# Altium integrated library National Semiconductor OtherParts.IntLib: 205 symbols (part 3 of 7)
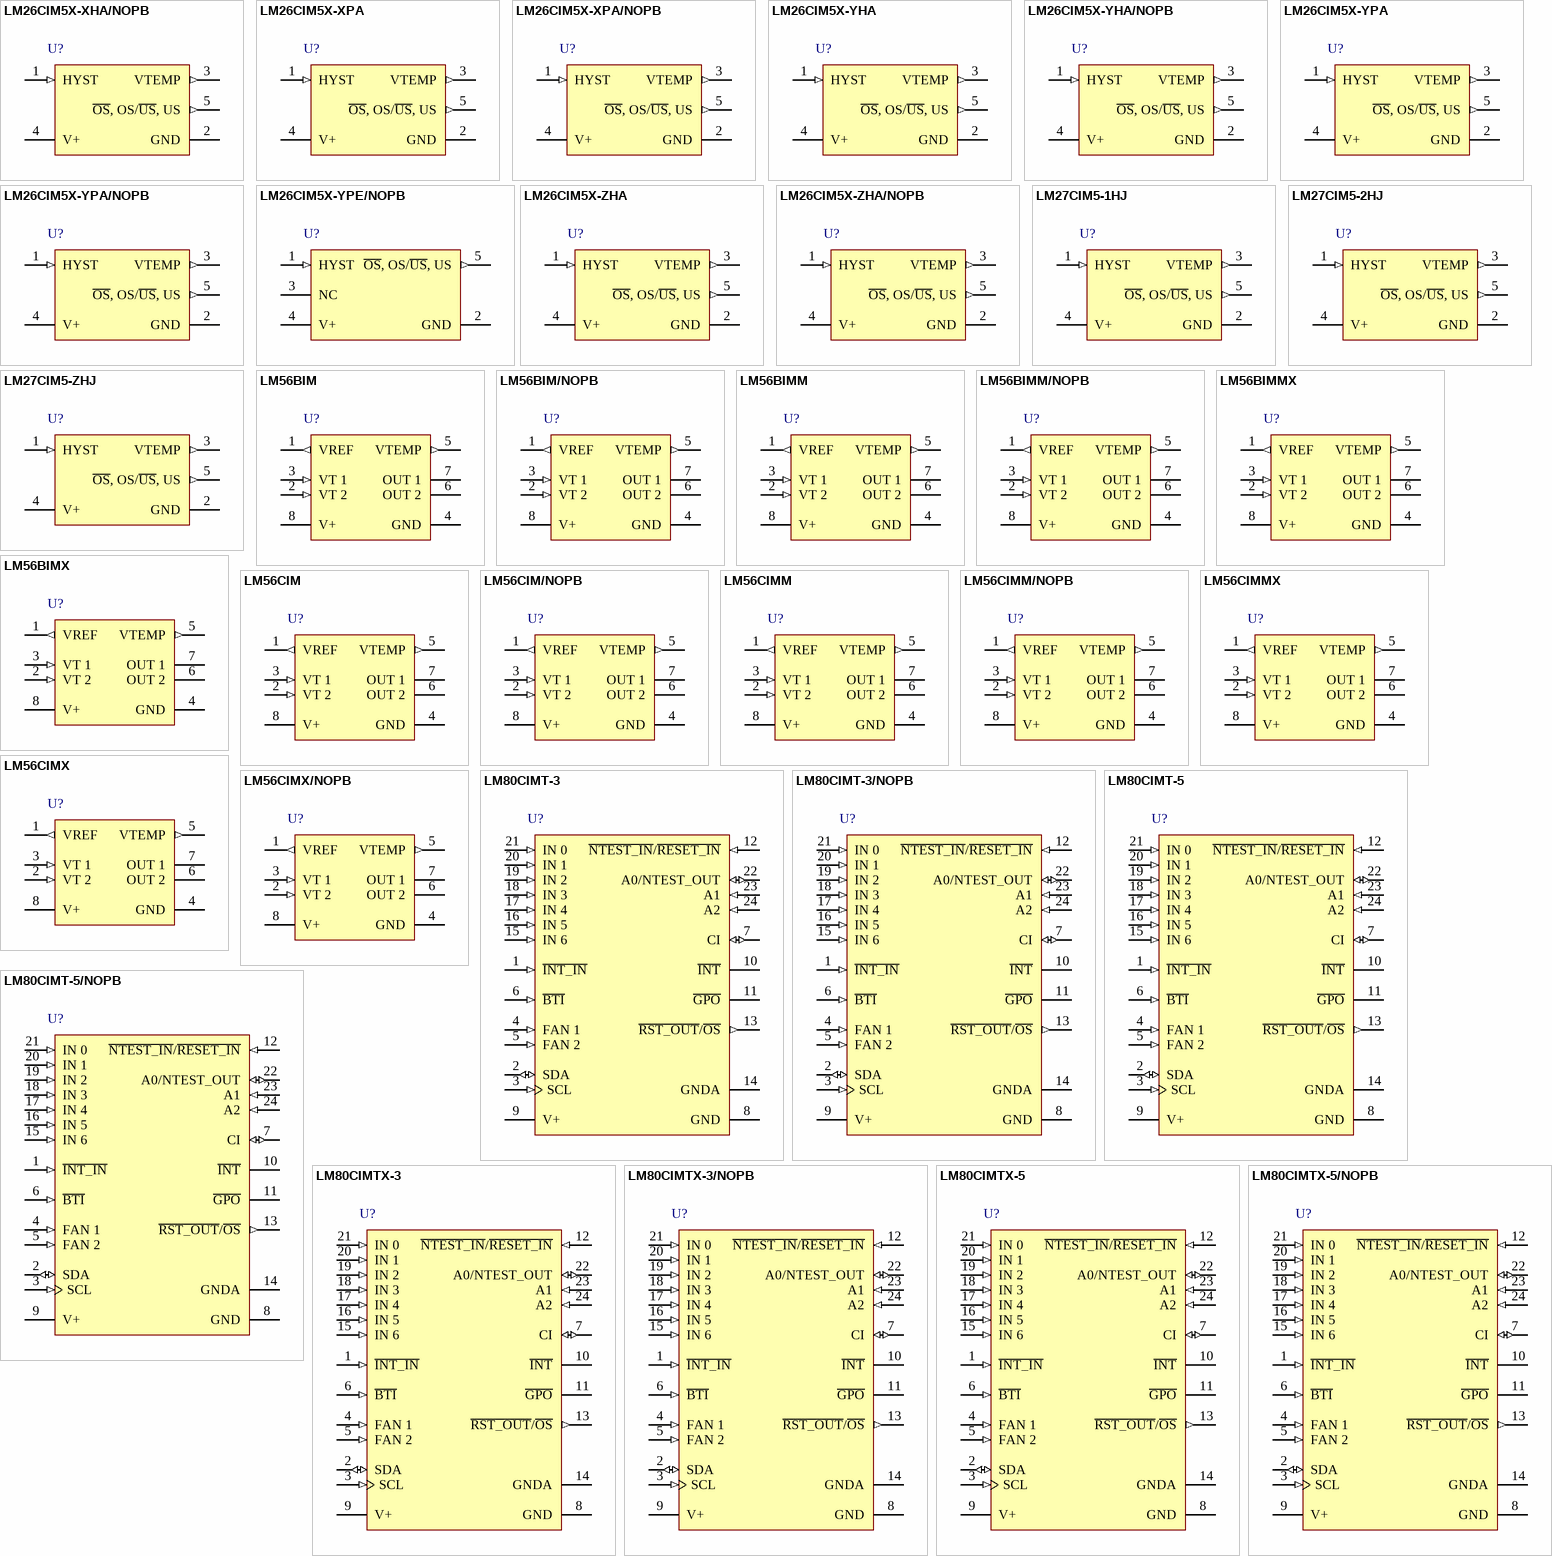
[diagram p14: symbols LM26CIM5X-XHA/NOPB to LM80CIMTX-5/NOPB]

## LM56CIMM
designator U?
Dual Output Low Power Thermostat, 8-pin Mini SOIC; PartNumber: LM56CIMM; Manufacturer: National Semiconductor; PackageTopMarking: ZXTT*T02C; PowerWise: Y; CompType: OtherParts; DatasheetVersion: Aug-2009; PackageVersion: revF, Apr-2008; PackageReference: MUA08A; PackageDescription: MINI SOIC, .118 x .118 x .034in, 8 Lead, .0256in Pitch; RoHS: N; PinCount: 8; High-Reliability: Y; Code_JEDEC: MO-187-AA; ComponentLink1Description: Manufacturer URL; ComponentLink1URL: http://www.national.com/; ComponentLink2Description: LM56 Datasheet; ComponentLink2URL: http://www.national.com/ds/LM/LM56.pdf; ComponentLink3Description: LM56 Web Page; ComponentLink3URL: http://www.national.com/pf/LM/LM56.html; ComponentLink4Description: MUA08A Package Page; ComponentLink4URL: http://www.national.com/packaging/folders/mua08a.html
footprint MUA08A_N (TSOP, 8-Leads, Body 3x3mm, Pitch 0.65mm, IPC Medium Density)
footprint MUA08A_L (TSOP, 8-Leads, Body 3x3mm, Pitch 0.65mm, IPC High Density)
footprint MUA08A_M (TSOP, 8-Leads, Body 3x3mm, Pitch 0.65mm, IPC Low Density)
pins: 1 VREF (out), 2 VT 2 (in), 3 VT 1 (in), 4 GND (power), 5 VTEMP (out), 6 OUT 2 (oc), 7 OUT 1 (oc), 8 V+ (power)

## LM56CIMM/NOPB
designator U?
Dual Output Low Power Thermostat, 8-pin Mini SOIC, Pb-Free; PartNumber: LM56CIMM/NOPB; Manufacturer: National Semiconductor; PackageTopMarking: ZXTT*T02C; PowerWise: Y; CompType: OtherParts; DatasheetVersion: Aug-2009; PackageVersion: revF, Apr-2008; PackageReference: MUA08A; PackageDescription: MINI SOIC, .118 x .118 x .034in, 8 Lead, .0256in Pitch; RoHS: Y; PinCount: 8; High-Reliability: Y; Code_JEDEC: MO-187-AA; ComponentLink1Description: Manufacturer URL; ComponentLink1URL: http://www.national.com/; ComponentLink2Description: LM56 Datasheet; ComponentLink2URL: http://www.national.com/ds/LM/LM56.pdf; ComponentLink3Description: LM56 Web Page; ComponentLink3URL: http://www.national.com/pf/LM/LM56.html; ComponentLink4Description: MUA08A Package Page; ComponentLink4URL: http://www.national.com/packaging/folders/mua08a.html
footprint MUA08A_N (TSOP, 8-Leads, Body 3x3mm, Pitch 0.65mm, IPC Medium Density)
footprint MUA08A_L (TSOP, 8-Leads, Body 3x3mm, Pitch 0.65mm, IPC High Density)
footprint MUA08A_M (TSOP, 8-Leads, Body 3x3mm, Pitch 0.65mm, IPC Low Density)
pins: 1 VREF (out), 2 VT 2 (in), 3 VT 1 (in), 4 GND (power), 5 VTEMP (out), 6 OUT 2 (oc), 7 OUT 1 (oc), 8 V+ (power)

## LM56CIMMX
designator U?
Dual Output Low Power Thermostat, 8-pin Mini SOIC; PartNumber: LM56CIMMX; Manufacturer: National Semiconductor; PackageTopMarking: ZXTT*T02C; PowerWise: Y; CompType: OtherParts; DatasheetVersion: Aug-2009; PackageVersion: revF, Apr-2008; PackageReference: MUA08A; PackageDescription: MINI SOIC, .118 x .118 x .034in, 8 Lead, .0256in Pitch; RoHS: N; PinCount: 8; High-Reliability: Y; Code_JEDEC: MO-187-AA; ComponentLink1Description: Manufacturer URL; ComponentLink1URL: http://www.national.com/; ComponentLink2Description: LM56 Datasheet; ComponentLink2URL: http://www.national.com/ds/LM/LM56.pdf; ComponentLink3Description: LM56 Web Page; ComponentLink3URL: http://www.national.com/pf/LM/LM56.html; ComponentLink4Description: MUA08A Package Page; ComponentLink4URL: http://www.national.com/packaging/folders/mua08a.html
footprint MUA08A_N (TSOP, 8-Leads, Body 3x3mm, Pitch 0.65mm, IPC Medium Density)
footprint MUA08A_L (TSOP, 8-Leads, Body 3x3mm, Pitch 0.65mm, IPC High Density)
footprint MUA08A_M (TSOP, 8-Leads, Body 3x3mm, Pitch 0.65mm, IPC Low Density)
pins: 1 VREF (out), 2 VT 2 (in), 3 VT 1 (in), 4 GND (power), 5 VTEMP (out), 6 OUT 2 (oc), 7 OUT 1 (oc), 8 V+ (power)

## LM56CIMX
designator U?
Dual Output Low Power Thermostat, 8-pin Narrow SOIC; PartNumber: LM56CIMX; Manufacturer: National Semiconductor; PackageTopMarking: NSZXTT*LM56*CIM; PowerWise: Y; CompType: OtherParts; DatasheetVersion: Aug-2009; PackageVersion: revM, May-2009; PackageReference: M08A; PackageDescription: SOIC Narrow, 4.9 x 3.9 x 1.45mm, 8 Lead, 1.27mm Pitch; RoHS: N; PinCount: 8; High-Reliability: Y; Code_JEDEC: MS-012-AA; Code_IPC: SOIC127P600-8; ComponentLink1Description: Manufacturer URL; ComponentLink1URL: http://www.national.com/; ComponentLink2Description: LM56 Datasheet; ComponentLink2URL: http://www.national.com/ds/LM/LM56.pdf; ComponentLink3Description: LM56 Web Page; ComponentLink3URL: http://www.national.com/pf/LM/LM56.html; ComponentLink4Description: M08A Package Page; ComponentLink4URL: http://www.national.com/packaging/folders/m08a.html
footprint M08A_N (SOIC, 8-Leads, Body 4.9x3.9mm, Pitch 1.27mm, IPC Medium Density)
footprint M08A_L (SOIC, 8-Leads, Body 4.9x3.9mm, Pitch 1.27mm, IPC High Density)
footprint M08A_M (SOIC, 8-Leads, Body 4.9x3.9mm, Pitch 1.27mm, IPC Low Density)
pins: 1 VREF (out), 2 VT 2 (in), 3 VT 1 (in), 4 GND (power), 5 VTEMP (out), 6 OUT 2 (oc), 7 OUT 1 (oc), 8 V+ (power)

## LM56CIMX/NOPB
designator U?
Dual Output Low Power Thermostat, 8-pin Narrow SOIC, Pb-Free; PartNumber: LM56CIMX/NOPB; Manufacturer: National Semiconductor; PackageTopMarking: NSZXTT*LM56*CIM; PowerWise: Y; CompType: OtherParts; DatasheetVersion: Aug-2009; PackageVersion: revM, May-2009; PackageReference: M08A; PackageDescription: SOIC Narrow, 4.9 x 3.9 x 1.45mm, 8 Lead, 1.27mm Pitch; RoHS: Y; PinCount: 8; High-Reliability: Y; Code_JEDEC: MS-012-AA; Code_IPC: SOIC127P600-8; ComponentLink1Description: Manufacturer URL; ComponentLink1URL: http://www.national.com/; ComponentLink2Description: LM56 Datasheet; ComponentLink2URL: http://www.national.com/ds/LM/LM56.pdf; ComponentLink3Description: LM56 Web Page; ComponentLink3URL: http://www.national.com/pf/LM/LM56.html; ComponentLink4Description: M08A Package Page; ComponentLink4URL: http://www.national.com/packaging/folders/m08a.html
footprint M08A_N (SOIC, 8-Leads, Body 4.9x3.9mm, Pitch 1.27mm, IPC Medium Density)
footprint M08A_L (SOIC, 8-Leads, Body 4.9x3.9mm, Pitch 1.27mm, IPC High Density)
footprint M08A_M (SOIC, 8-Leads, Body 4.9x3.9mm, Pitch 1.27mm, IPC Low Density)
pins: 1 VREF (out), 2 VT 2 (in), 3 VT 1 (in), 4 GND (power), 5 VTEMP (out), 6 OUT 2 (oc), 7 OUT 1 (oc), 8 V+ (power)

## LM80CIMT-3
designator U?
Serial Interface ACPI-Compatible Microprocessor System Hardware Monitor, 24-pin TSSOP; PartNumber: LM80CIMT-3; Manufacturer: National Semiconductor; PackageTopMarking: NSUZXYTTE#*LM80*CIMT-3; PowerWise: N; CompType: OtherParts; High-Reliability: Y; DatasheetVersion: Oct-2009; PackageVersion: revE, Mar-2003; PackageReference: MTC24; PackageDescription: Molded TSSOP, Jedec, 7.8 x 4.4 x 0.9mm Body, 24 Lead, 0.65mm Pitch; RoHS: N; PinCount: 24; Code_JEDEC: MO-153-AD; ComponentLink1Description: Manufacturer URL; ComponentLink1URL: http://www.national.com/; ComponentLink2Description: LM80 Datasheet; ComponentLink2URL: http://www.national.com/ds/LM/LM80.pdf; ComponentLink3Description: LM80 Web Page; ComponentLink3URL: http://www.national.com/pf/LM/LM80.html; ComponentLink4Description: MTC24 Package Page; ComponentLink4URL: http://www.national.com/packaging/folders/mtc24.html
footprint MTC24_N (TSOP, 24-Leads, Body 7.8x4.4mm, Pitch 0.65mm, IPC Medium Density)
footprint MTC24_L (TSOP, 24-Leads, Body 7.8x4.4mm, Pitch 0.65mm, IPC High Density)
footprint MTC24_M (TSOP, 24-Leads, Body 7.8x4.4mm, Pitch 0.65mm, IPC Low Density)
pins: 1 ~{INT_IN} (in), 2 SDA (io), 3 SCL (in), 4 FAN 1 (in), 5 FAN 2 (in), 6 ~{BTI} (in), 7 CI (io), 8 GND (power), 9 V+ (power), 10 ~{INT} (oe), 11 ~{GPO} (oe), 12 ~{NTEST_IN}/~{RESET_IN} (in), 13 ~{RST_OUT}/~{OS} (out), 14 GNDA (power), 15 IN 6 (in), 16 IN 5 (in), 17 IN 4 (in), 18 IN 3 (in), 19 IN 2 (in), 20 IN 1 (in), 21 IN 0 (in), 22 A0/NTEST_OUT (io), 23 A1 (in), 24 A2 (in)

## LM80CIMT-3/NOPB
designator U?
Serial Interface ACPI-Compatible Microprocessor System Hardware Monitor, 24-pin TSSOP, Pb-Free; PartNumber: LM80CIMT-3/NOPB; Manufacturer: National Semiconductor; PackageTopMarking: NSUZXYTTE#*LM80*CIMT-3; PowerWise: N; CompType: OtherParts; High-Reliability: Y; DatasheetVersion: Oct-2009; PackageVersion: revE, Mar-2003; PackageReference: MTC24; PackageDescription: Molded TSSOP, Jedec, 7.8 x 4.4 x 0.9mm Body, 24 Lead, 0.65mm Pitch; RoHS: Y; PinCount: 24; Code_JEDEC: MO-153-AD; ComponentLink1Description: Manufacturer URL; ComponentLink1URL: http://www.national.com/; ComponentLink2Description: LM80 Datasheet; ComponentLink2URL: http://www.national.com/ds/LM/LM80.pdf; ComponentLink3Description: LM80 Web Page; ComponentLink3URL: http://www.national.com/pf/LM/LM80.html; ComponentLink4Description: MTC24 Package Page; ComponentLink4URL: http://www.national.com/packaging/folders/mtc24.html
footprint MTC24_N (TSOP, 24-Leads, Body 7.8x4.4mm, Pitch 0.65mm, IPC Medium Density)
footprint MTC24_L (TSOP, 24-Leads, Body 7.8x4.4mm, Pitch 0.65mm, IPC High Density)
footprint MTC24_M (TSOP, 24-Leads, Body 7.8x4.4mm, Pitch 0.65mm, IPC Low Density)
pins: 1 ~{INT_IN} (in), 2 SDA (io), 3 SCL (in), 4 FAN 1 (in), 5 FAN 2 (in), 6 ~{BTI} (in), 7 CI (io), 8 GND (power), 9 V+ (power), 10 ~{INT} (oe), 11 ~{GPO} (oe), 12 ~{NTEST_IN}/~{RESET_IN} (in), 13 ~{RST_OUT}/~{OS} (out), 14 GNDA (power), 15 IN 6 (in), 16 IN 5 (in), 17 IN 4 (in), 18 IN 3 (in), 19 IN 2 (in), 20 IN 1 (in), 21 IN 0 (in), 22 A0/NTEST_OUT (io), 23 A1 (in), 24 A2 (in)

## LM80CIMT-5
designator U?
Serial Interface ACPI-Compatible Microprocessor System Hardware Monitor, 24-pin TSSOP; PartNumber: LM80CIMT-5; Manufacturer: National Semiconductor; PackageTopMarking: NSUZXYTTE#*LM80*CIMT-5; PowerWise: N; CompType: OtherParts; High-Reliability: Y; DatasheetVersion: Oct-2009; PackageVersion: revE, Mar-2003; PackageReference: MTC24; PackageDescription: Molded TSSOP, Jedec, 7.8 x 4.4 x 0.9mm Body, 24 Lead, 0.65mm Pitch; RoHS: N; PinCount: 24; Code_JEDEC: MO-153-AD; ComponentLink1Description: Manufacturer URL; ComponentLink1URL: http://www.national.com/; ComponentLink2Description: LM80 Datasheet; ComponentLink2URL: http://www.national.com/ds/LM/LM80.pdf; ComponentLink3Description: LM80 Web Page; ComponentLink3URL: http://www.national.com/pf/LM/LM80.html; ComponentLink4Description: MTC24 Package Page; ComponentLink4URL: http://www.national.com/packaging/folders/mtc24.html
footprint MTC24_N (TSOP, 24-Leads, Body 7.8x4.4mm, Pitch 0.65mm, IPC Medium Density)
footprint MTC24_L (TSOP, 24-Leads, Body 7.8x4.4mm, Pitch 0.65mm, IPC High Density)
footprint MTC24_M (TSOP, 24-Leads, Body 7.8x4.4mm, Pitch 0.65mm, IPC Low Density)
pins: 1 ~{INT_IN} (in), 2 SDA (io), 3 SCL (in), 4 FAN 1 (in), 5 FAN 2 (in), 6 ~{BTI} (in), 7 CI (io), 8 GND (power), 9 V+ (power), 10 ~{INT} (oe), 11 ~{GPO} (oe), 12 ~{NTEST_IN}/~{RESET_IN} (in), 13 ~{RST_OUT}/~{OS} (out), 14 GNDA (power), 15 IN 6 (in), 16 IN 5 (in), 17 IN 4 (in), 18 IN 3 (in), 19 IN 2 (in), 20 IN 1 (in), 21 IN 0 (in), 22 A0/NTEST_OUT (io), 23 A1 (in), 24 A2 (in)

## LM80CIMT-5/NOPB
designator U?
Serial Interface ACPI-Compatible Microprocessor System Hardware Monitor, 24-pin TSSOP, Pb-Free; PartNumber: LM80CIMT-5/NOPB; Manufacturer: National Semiconductor; PackageTopMarking: NSUZXYTTE#*LM80*CIMT-5; PowerWise: N; CompType: OtherParts; High-Reliability: Y; DatasheetVersion: Oct-2009; PackageVersion: revE, Mar-2003; PackageReference: MTC24; PackageDescription: Molded TSSOP, Jedec, 7.8 x 4.4 x 0.9mm Body, 24 Lead, 0.65mm Pitch; RoHS: Y; PinCount: 24; Code_JEDEC: MO-153-AD; ComponentLink1Description: Manufacturer URL; ComponentLink1URL: http://www.national.com/; ComponentLink2Description: LM80 Datasheet; ComponentLink2URL: http://www.national.com/ds/LM/LM80.pdf; ComponentLink3Description: LM80 Web Page; ComponentLink3URL: http://www.national.com/pf/LM/LM80.html; ComponentLink4Description: MTC24 Package Page; ComponentLink4URL: http://www.national.com/packaging/folders/mtc24.html
footprint MTC24_N (TSOP, 24-Leads, Body 7.8x4.4mm, Pitch 0.65mm, IPC Medium Density)
footprint MTC24_L (TSOP, 24-Leads, Body 7.8x4.4mm, Pitch 0.65mm, IPC High Density)
footprint MTC24_M (TSOP, 24-Leads, Body 7.8x4.4mm, Pitch 0.65mm, IPC Low Density)
pins: 1 ~{INT_IN} (in), 2 SDA (io), 3 SCL (in), 4 FAN 1 (in), 5 FAN 2 (in), 6 ~{BTI} (in), 7 CI (io), 8 GND (power), 9 V+ (power), 10 ~{INT} (oe), 11 ~{GPO} (oe), 12 ~{NTEST_IN}/~{RESET_IN} (in), 13 ~{RST_OUT}/~{OS} (out), 14 GNDA (power), 15 IN 6 (in), 16 IN 5 (in), 17 IN 4 (in), 18 IN 3 (in), 19 IN 2 (in), 20 IN 1 (in), 21 IN 0 (in), 22 A0/NTEST_OUT (io), 23 A1 (in), 24 A2 (in)

## LM80CIMTX-3
designator U?
Serial Interface ACPI-Compatible Microprocessor System Hardware Monitor, 24-pin TSSOP; PartNumber: LM80CIMTX-3; Manufacturer: National Semiconductor; PackageTopMarking: NSUZXYTTE#*LM80*CIMT-3; PowerWise: N; CompType: OtherParts; High-Reliability: Y; DatasheetVersion: Oct-2009; PackageVersion: revE, Mar-2003; PackageReference: MTC24; PackageDescription: Molded TSSOP, Jedec, 7.8 x 4.4 x 0.9mm Body, 24 Lead, 0.65mm Pitch; RoHS: N; PinCount: 24; Code_JEDEC: MO-153-AD; ComponentLink1Description: Manufacturer URL; ComponentLink1URL: http://www.national.com/; ComponentLink2Description: LM80 Datasheet; ComponentLink2URL: http://www.national.com/ds/LM/LM80.pdf; ComponentLink3Description: LM80 Web Page; ComponentLink3URL: http://www.national.com/pf/LM/LM80.html; ComponentLink4Description: MTC24 Package Page; ComponentLink4URL: http://www.national.com/packaging/folders/mtc24.html
footprint MTC24_N (TSOP, 24-Leads, Body 7.8x4.4mm, Pitch 0.65mm, IPC Medium Density)
footprint MTC24_L (TSOP, 24-Leads, Body 7.8x4.4mm, Pitch 0.65mm, IPC High Density)
footprint MTC24_M (TSOP, 24-Leads, Body 7.8x4.4mm, Pitch 0.65mm, IPC Low Density)
pins: 1 ~{INT_IN} (in), 2 SDA (io), 3 SCL (in), 4 FAN 1 (in), 5 FAN 2 (in), 6 ~{BTI} (in), 7 CI (io), 8 GND (power), 9 V+ (power), 10 ~{INT} (oe), 11 ~{GPO} (oe), 12 ~{NTEST_IN}/~{RESET_IN} (in), 13 ~{RST_OUT}/~{OS} (out), 14 GNDA (power), 15 IN 6 (in), 16 IN 5 (in), 17 IN 4 (in), 18 IN 3 (in), 19 IN 2 (in), 20 IN 1 (in), 21 IN 0 (in), 22 A0/NTEST_OUT (io), 23 A1 (in), 24 A2 (in)

## LM80CIMTX-3/NOPB
designator U?
Serial Interface ACPI-Compatible Microprocessor System Hardware Monitor, 24-pin TSSOP, Pb-Free; PartNumber: LM80CIMTX-3/NOPB; Manufacturer: National Semiconductor; PackageTopMarking: NSUZXYTTE#*LM80*CIMT-3; PowerWise: N; CompType: OtherParts; High-Reliability: Y; DatasheetVersion: Oct-2009; PackageVersion: revE, Mar-2003; PackageReference: MTC24; PackageDescription: Molded TSSOP, Jedec, 7.8 x 4.4 x 0.9mm Body, 24 Lead, 0.65mm Pitch; RoHS: Y; PinCount: 24; Code_JEDEC: MO-153-AD; ComponentLink1Description: Manufacturer URL; ComponentLink1URL: http://www.national.com/; ComponentLink2Description: LM80 Datasheet; ComponentLink2URL: http://www.national.com/ds/LM/LM80.pdf; ComponentLink3Description: LM80 Web Page; ComponentLink3URL: http://www.national.com/pf/LM/LM80.html; ComponentLink4Description: MTC24 Package Page; ComponentLink4URL: http://www.national.com/packaging/folders/mtc24.html
footprint MTC24_N (TSOP, 24-Leads, Body 7.8x4.4mm, Pitch 0.65mm, IPC Medium Density)
footprint MTC24_L (TSOP, 24-Leads, Body 7.8x4.4mm, Pitch 0.65mm, IPC High Density)
footprint MTC24_M (TSOP, 24-Leads, Body 7.8x4.4mm, Pitch 0.65mm, IPC Low Density)
pins: 1 ~{INT_IN} (in), 2 SDA (io), 3 SCL (in), 4 FAN 1 (in), 5 FAN 2 (in), 6 ~{BTI} (in), 7 CI (io), 8 GND (power), 9 V+ (power), 10 ~{INT} (oe), 11 ~{GPO} (oe), 12 ~{NTEST_IN}/~{RESET_IN} (in), 13 ~{RST_OUT}/~{OS} (out), 14 GNDA (power), 15 IN 6 (in), 16 IN 5 (in), 17 IN 4 (in), 18 IN 3 (in), 19 IN 2 (in), 20 IN 1 (in), 21 IN 0 (in), 22 A0/NTEST_OUT (io), 23 A1 (in), 24 A2 (in)

## LM80CIMTX-5
designator U?
Serial Interface ACPI-Compatible Microprocessor System Hardware Monitor, 24-pin TSSOP; PartNumber: LM80CIMTX-5; Manufacturer: National Semiconductor; PackageTopMarking: NSUZXYTTE#*LM80*CIMT-5; PowerWise: N; CompType: OtherParts; High-Reliability: Y; DatasheetVersion: Oct-2009; PackageVersion: revE, Mar-2003; PackageReference: MTC24; PackageDescription: Molded TSSOP, Jedec, 7.8 x 4.4 x 0.9mm Body, 24 Lead, 0.65mm Pitch; RoHS: N; PinCount: 24; Code_JEDEC: MO-153-AD; ComponentLink1Description: Manufacturer URL; ComponentLink1URL: http://www.national.com/; ComponentLink2Description: LM80 Datasheet; ComponentLink2URL: http://www.national.com/ds/LM/LM80.pdf; ComponentLink3Description: LM80 Web Page; ComponentLink3URL: http://www.national.com/pf/LM/LM80.html; ComponentLink4Description: MTC24 Package Page; ComponentLink4URL: http://www.national.com/packaging/folders/mtc24.html
footprint MTC24_N (TSOP, 24-Leads, Body 7.8x4.4mm, Pitch 0.65mm, IPC Medium Density)
footprint MTC24_L (TSOP, 24-Leads, Body 7.8x4.4mm, Pitch 0.65mm, IPC High Density)
footprint MTC24_M (TSOP, 24-Leads, Body 7.8x4.4mm, Pitch 0.65mm, IPC Low Density)
pins: 1 ~{INT_IN} (in), 2 SDA (io), 3 SCL (in), 4 FAN 1 (in), 5 FAN 2 (in), 6 ~{BTI} (in), 7 CI (io), 8 GND (power), 9 V+ (power), 10 ~{INT} (oe), 11 ~{GPO} (oe), 12 ~{NTEST_IN}/~{RESET_IN} (in), 13 ~{RST_OUT}/~{OS} (out), 14 GNDA (power), 15 IN 6 (in), 16 IN 5 (in), 17 IN 4 (in), 18 IN 3 (in), 19 IN 2 (in), 20 IN 1 (in), 21 IN 0 (in), 22 A0/NTEST_OUT (io), 23 A1 (in), 24 A2 (in)

## LM80CIMTX-5/NOPB
designator U?
Serial Interface ACPI-Compatible Microprocessor System Hardware Monitor, 24-pin TSSOP, Pb-Free; PartNumber: LM80CIMTX-5/NOPB; Manufacturer: National Semiconductor; PackageTopMarking: NSUZXYTTE#*LM80*CIMT-5; PowerWise: N; CompType: OtherParts; High-Reliability: Y; DatasheetVersion: Oct-2009; PackageVersion: revE, Mar-2003; PackageReference: MTC24; PackageDescription: Molded TSSOP, Jedec, 7.8 x 4.4 x 0.9mm Body, 24 Lead, 0.65mm Pitch; RoHS: Y; PinCount: 24; Code_JEDEC: MO-153-AD; ComponentLink1Description: Manufacturer URL; ComponentLink1URL: http://www.national.com/; ComponentLink2Description: LM80 Datasheet; ComponentLink2URL: http://www.national.com/ds/LM/LM80.pdf; ComponentLink3Description: LM80 Web Page; ComponentLink3URL: http://www.national.com/pf/LM/LM80.html; ComponentLink4Description: MTC24 Package Page; ComponentLink4URL: http://www.national.com/packaging/folders/mtc24.html
footprint MTC24_N (TSOP, 24-Leads, Body 7.8x4.4mm, Pitch 0.65mm, IPC Medium Density)
footprint MTC24_L (TSOP, 24-Leads, Body 7.8x4.4mm, Pitch 0.65mm, IPC High Density)
footprint MTC24_M (TSOP, 24-Leads, Body 7.8x4.4mm, Pitch 0.65mm, IPC Low Density)
pins: 1 ~{INT_IN} (in), 2 SDA (io), 3 SCL (in), 4 FAN 1 (in), 5 FAN 2 (in), 6 ~{BTI} (in), 7 CI (io), 8 GND (power), 9 V+ (power), 10 ~{INT} (oe), 11 ~{GPO} (oe), 12 ~{NTEST_IN}/~{RESET_IN} (in), 13 ~{RST_OUT}/~{OS} (out), 14 GNDA (power), 15 IN 6 (in), 16 IN 5 (in), 17 IN 4 (in), 18 IN 3 (in), 19 IN 2 (in), 20 IN 1 (in), 21 IN 0 (in), 22 A0/NTEST_OUT (io), 23 A1 (in), 24 A2 (in)

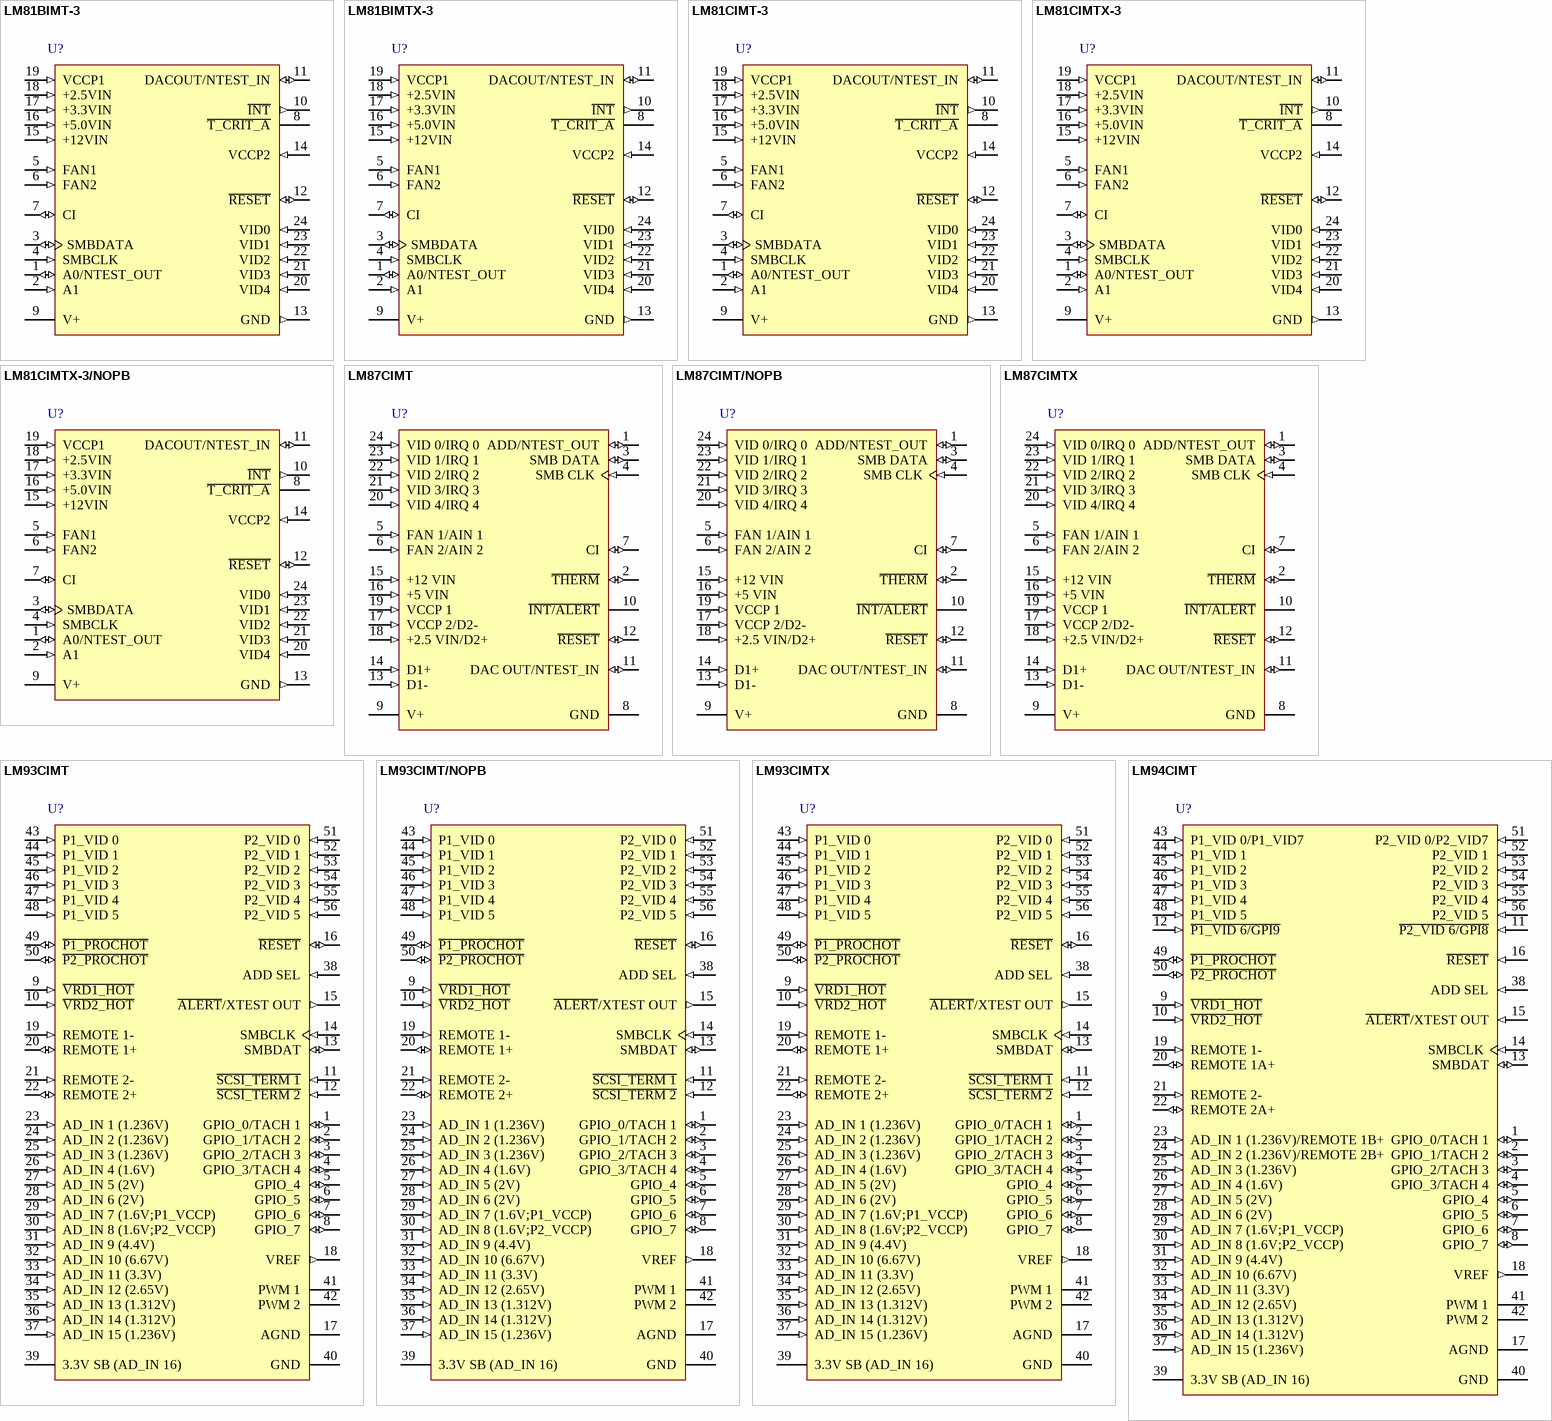
[diagram p3: symbols LM81BIMT-3 to LM94CIMT]

## LM81BIMT-3
designator U?
Serial Interface ACPI-Compatible Microprocessor System Hardware Monitor, 24-pin TSSOP; PartNumber: LM81BIMT-3; Manufacturer: National Semiconductor; PackageTopMarking: NSUZXYTTE#*LM81*BIMT-3; PowerWise: N; CompType: OtherParts; High-Reliability: Y; DatasheetVersion: Feb-2002; PackageVersion: revE, Mar-2003; PackageReference: MTC24; PackageDescription: Molded TSSOP, Jedec, 7.8 x 4.4 x 0.9mm Body, 24 Lead, 0.65mm Pitch; RoHS: N; PinCount: 24; Code_JEDEC: MO-153-AD; ComponentLink1Description: Manufacturer URL; ComponentLink1URL: http://www.national.com/; ComponentLink2Description: LM81 Datasheet; ComponentLink2URL: http://www.national.com/ds/LM/LM81.pdf; ComponentLink3Description: LM81 Web Page; ComponentLink3URL: http://www.national.com/pf/LM/LM81.html; ComponentLink4Description: MTC24 Package Page; ComponentLink4URL: http://www.national.com/packaging/folders/mtc24.html
footprint MTC24_N (TSOP, 24-Leads, Body 7.8x4.4mm, Pitch 0.65mm, IPC Medium Density)
footprint MTC24_L (TSOP, 24-Leads, Body 7.8x4.4mm, Pitch 0.65mm, IPC High Density)
footprint MTC24_M (TSOP, 24-Leads, Body 7.8x4.4mm, Pitch 0.65mm, IPC Low Density)
pins: 1 A0/NTEST_OUT (io), 2 A1 (in), 3 SMBDATA (io), 4 SMBCLK (in), 5 FAN1 (in), 6 FAN2 (in), 7 CI (io), 8 ~{T_CRIT_A} (oc), 9 V+ (power), 10 ~{INT} (out), 11 DACOUT/NTEST_IN (io), 12 ~{RESET} (io), 13 GND (out), 14 VCCP2 (in), 15 +12VIN (in), 16 +5.0VIN (in), 17 +3.3VIN (in), 18 +2.5VIN (in), 19 VCCP1 (in), 20 VID4 (in), 21 VID3 (in), 22 VID2 (in), 23 VID1 (in), 24 VID0 (in)

## LM81BIMTX-3
designator U?
Serial Interface ACPI-Compatible Microprocessor System Hardware Monitor, 24-pin TSSOP; PartNumber: LM81BIMTX-3; Manufacturer: National Semiconductor; PackageTopMarking: NSUZXYTTE#*LM81*BIMT-3; PowerWise: N; CompType: OtherParts; High-Reliability: Y; DatasheetVersion: Feb-2002; PackageVersion: revE, Mar-2003; PackageReference: MTC24; PackageDescription: Molded TSSOP, Jedec, 7.8 x 4.4 x 0.9mm Body, 24 Lead, 0.65mm Pitch; RoHS: N; PinCount: 24; Code_JEDEC: MO-153-AD; ComponentLink1Description: Manufacturer URL; ComponentLink1URL: http://www.national.com/; ComponentLink2Description: LM81 Datasheet; ComponentLink2URL: http://www.national.com/ds/LM/LM81.pdf; ComponentLink3Description: LM81 Web Page; ComponentLink3URL: http://www.national.com/pf/LM/LM81.html; ComponentLink4Description: MTC24 Package Page; ComponentLink4URL: http://www.national.com/packaging/folders/mtc24.html
footprint MTC24_N (TSOP, 24-Leads, Body 7.8x4.4mm, Pitch 0.65mm, IPC Medium Density)
footprint MTC24_L (TSOP, 24-Leads, Body 7.8x4.4mm, Pitch 0.65mm, IPC High Density)
footprint MTC24_M (TSOP, 24-Leads, Body 7.8x4.4mm, Pitch 0.65mm, IPC Low Density)
pins: 1 A0/NTEST_OUT (io), 2 A1 (in), 3 SMBDATA (io), 4 SMBCLK (in), 5 FAN1 (in), 6 FAN2 (in), 7 CI (io), 8 ~{T_CRIT_A} (oc), 9 V+ (power), 10 ~{INT} (out), 11 DACOUT/NTEST_IN (io), 12 ~{RESET} (io), 13 GND (out), 14 VCCP2 (in), 15 +12VIN (in), 16 +5.0VIN (in), 17 +3.3VIN (in), 18 +2.5VIN (in), 19 VCCP1 (in), 20 VID4 (in), 21 VID3 (in), 22 VID2 (in), 23 VID1 (in), 24 VID0 (in)

## LM81CIMT-3
designator U?
Serial Interface ACPI-Compatible Microprocessor System Hardware Monitor, 24-pin TSSOP; PartNumber: LM81CIMT-3; Manufacturer: National Semiconductor; PackageTopMarking: NSUZXYTTE#*LM81*CIMT-3; PowerWise: N; CompType: OtherParts; High-Reliability: Y; DatasheetVersion: Feb-2002; PackageVersion: revE, Mar-2003; PackageReference: MTC24; PackageDescription: Molded TSSOP, Jedec, 7.8 x 4.4 x 0.9mm Body, 24 Lead, 0.65mm Pitch; RoHS: N; PinCount: 24; Code_JEDEC: MO-153-AD; ComponentLink1Description: Manufacturer URL; ComponentLink1URL: http://www.national.com/; ComponentLink2Description: LM81 Datasheet; ComponentLink2URL: http://www.national.com/ds/LM/LM81.pdf; ComponentLink3Description: LM81 Web Page; ComponentLink3URL: http://www.national.com/pf/LM/LM81.html; ComponentLink4Description: MTC24 Package Page; ComponentLink4URL: http://www.national.com/packaging/folders/mtc24.html
footprint MTC24_N (TSOP, 24-Leads, Body 7.8x4.4mm, Pitch 0.65mm, IPC Medium Density)
footprint MTC24_L (TSOP, 24-Leads, Body 7.8x4.4mm, Pitch 0.65mm, IPC High Density)
footprint MTC24_M (TSOP, 24-Leads, Body 7.8x4.4mm, Pitch 0.65mm, IPC Low Density)
pins: 1 A0/NTEST_OUT (io), 2 A1 (in), 3 SMBDATA (io), 4 SMBCLK (in), 5 FAN1 (in), 6 FAN2 (in), 7 CI (io), 8 ~{T_CRIT_A} (oc), 9 V+ (power), 10 ~{INT} (out), 11 DACOUT/NTEST_IN (io), 12 ~{RESET} (io), 13 GND (out), 14 VCCP2 (in), 15 +12VIN (in), 16 +5.0VIN (in), 17 +3.3VIN (in), 18 +2.5VIN (in), 19 VCCP1 (in), 20 VID4 (in), 21 VID3 (in), 22 VID2 (in), 23 VID1 (in), 24 VID0 (in)

## LM81CIMTX-3
designator U?
Serial Interface ACPI-Compatible Microprocessor System Hardware Monitor, 24-pin TSSOP; PartNumber: LM81CIMTX-3; Manufacturer: National Semiconductor; PackageTopMarking: NSUZXYTTE#*LM81*CIMT-3; PowerWise: N; CompType: OtherParts; High-Reliability: Y; DatasheetVersion: Feb-2002; PackageVersion: revE, Mar-2003; PackageReference: MTC24; PackageDescription: Molded TSSOP, Jedec, 7.8 x 4.4 x 0.9mm Body, 24 Lead, 0.65mm Pitch; RoHS: N; PinCount: 24; Code_JEDEC: MO-153-AD; ComponentLink1Description: Manufacturer URL; ComponentLink1URL: http://www.national.com/; ComponentLink2Description: LM81 Datasheet; ComponentLink2URL: http://www.national.com/ds/LM/LM81.pdf; ComponentLink3Description: LM81 Web Page; ComponentLink3URL: http://www.national.com/pf/LM/LM81.html; ComponentLink4Description: MTC24 Package Page; ComponentLink4URL: http://www.national.com/packaging/folders/mtc24.html
footprint MTC24_N (TSOP, 24-Leads, Body 7.8x4.4mm, Pitch 0.65mm, IPC Medium Density)
footprint MTC24_L (TSOP, 24-Leads, Body 7.8x4.4mm, Pitch 0.65mm, IPC High Density)
footprint MTC24_M (TSOP, 24-Leads, Body 7.8x4.4mm, Pitch 0.65mm, IPC Low Density)
pins: 1 A0/NTEST_OUT (io), 2 A1 (in), 3 SMBDATA (io), 4 SMBCLK (in), 5 FAN1 (in), 6 FAN2 (in), 7 CI (io), 8 ~{T_CRIT_A} (oc), 9 V+ (power), 10 ~{INT} (out), 11 DACOUT/NTEST_IN (io), 12 ~{RESET} (io), 13 GND (out), 14 VCCP2 (in), 15 +12VIN (in), 16 +5.0VIN (in), 17 +3.3VIN (in), 18 +2.5VIN (in), 19 VCCP1 (in), 20 VID4 (in), 21 VID3 (in), 22 VID2 (in), 23 VID1 (in), 24 VID0 (in)

## LM81CIMTX-3/NOPB
designator U?
Serial Interface ACPI-Compatible Microprocessor System Hardware Monitor, 24-pin TSSOP, Pb-Free; PartNumber: LM81CIMTX-3/NOPB; Manufacturer: National Semiconductor; PackageTopMarking: NSUZXYTTE#*LM81*CIMT-3; PowerWise: N; CompType: OtherParts; High-Reliability: Y; DatasheetVersion: Feb-2002; PackageVersion: revE, Mar-2003; PackageReference: MTC24; PackageDescription: Molded TSSOP, Jedec, 7.8 x 4.4 x 0.9mm Body, 24 Lead, 0.65mm Pitch; RoHS: Y; PinCount: 24; Code_JEDEC: MO-153-AD; ComponentLink1Description: Manufacturer URL; ComponentLink1URL: http://www.national.com/; ComponentLink2Description: LM81 Datasheet; ComponentLink2URL: http://www.national.com/ds/LM/LM81.pdf; ComponentLink3Description: LM81 Web Page; ComponentLink3URL: http://www.national.com/pf/LM/LM81.html; ComponentLink4Description: MTC24 Package Page; ComponentLink4URL: http://www.national.com/packaging/folders/mtc24.html
footprint MTC24_N (TSOP, 24-Leads, Body 7.8x4.4mm, Pitch 0.65mm, IPC Medium Density)
footprint MTC24_L (TSOP, 24-Leads, Body 7.8x4.4mm, Pitch 0.65mm, IPC High Density)
footprint MTC24_M (TSOP, 24-Leads, Body 7.8x4.4mm, Pitch 0.65mm, IPC Low Density)
pins: 1 A0/NTEST_OUT (io), 2 A1 (in), 3 SMBDATA (io), 4 SMBCLK (in), 5 FAN1 (in), 6 FAN2 (in), 7 CI (io), 8 ~{T_CRIT_A} (oc), 9 V+ (power), 10 ~{INT} (out), 11 DACOUT/NTEST_IN (io), 12 ~{RESET} (io), 13 GND (out), 14 VCCP2 (in), 15 +12VIN (in), 16 +5.0VIN (in), 17 +3.3VIN (in), 18 +2.5VIN (in), 19 VCCP1 (in), 20 VID4 (in), 21 VID3 (in), 22 VID2 (in), 23 VID1 (in), 24 VID0 (in)

## LM87CIMT
designator U?
Serial Interface System Hardware Monitor with Remote Diode Temperature Sensing, 24-pin TSSOP; PartNumber: LM87CIMT; Manufacturer: National Semiconductor; PackageTopMarking: NSUZXYTTE#*LM87CIMT; PowerWise: Y; CompType: OtherParts; DatasheetVersion: Dec-2003; PackageVersion: revE, Mar-2003; PackageReference: MTC24; PackageDescription: Molded TSSOP, Jedec, 7.8 x 4.4 x 0.9mm Body, 24 Lead, 0.65mm Pitch; RoHS: N; PinCount: 24; High-Reliability: Y; Code_JEDEC: MO-153-AD; ComponentLink1Description: Manufacturer URL; ComponentLink1URL: http://www.national.com/; ComponentLink2Description: LM87 Datasheet; ComponentLink2URL: http://www.national.com/ds/LM/LM87.pdf; ComponentLink3Description: LM87 Web Page; ComponentLink3URL: http://www.national.com/pf/LM/LM87.html; ComponentLink4Description: MTC24 Package Page; ComponentLink4URL: http://www.national.com/packaging/folders/mtc24.html
footprint MTC24_N (TSOP, 24-Leads, Body 7.8x4.4mm, Pitch 0.65mm, IPC Medium Density)
footprint MTC24_L (TSOP, 24-Leads, Body 7.8x4.4mm, Pitch 0.65mm, IPC High Density)
footprint MTC24_M (TSOP, 24-Leads, Body 7.8x4.4mm, Pitch 0.65mm, IPC Low Density)
pins: 1 ADD/NTEST_OUT (io), 2 ~{THERM} (io), 3 SMB DATA (io), 4 SMB CLK (in), 5 FAN 1/AIN 1 (in), 6 FAN 2/AIN 2 (in), 7 CI (io), 8 GND (power), 9 V+ (power), 10 ~{INT/ALERT} (oe), 11 DAC OUT/NTEST_IN (io), 12 ~{RESET} (io), 13 D1- (in), 14 D1+ (in), 15 +12 VIN (in), 16 +5 VIN (in), 17 VCCP 2/D2- (in), 18 +2.5 VIN/D2+ (in), 19 VCCP 1 (in), 20 VID 4/IRQ 4 (in), 21 VID 3/IRQ 3 (in), 22 VID 2/IRQ 2 (in), 23 VID 1/IRQ 1 (in), 24 VID 0/IRQ 0 (in)

## LM87CIMT/NOPB
designator U?
Serial Interface System Hardware Monitor with Remote Diode Temperature Sensing, 24-pin TSSOP, Pb-Free; PartNumber: LM87CIMT/NOPB; Manufacturer: National Semiconductor; PackageTopMarking: NSUZXYTTE#*LM87CIMT; PowerWise: Y; CompType: OtherParts; DatasheetVersion: Dec-2003; PackageVersion: revE, Mar-2003; PackageReference: MTC24; PackageDescription: Molded TSSOP, Jedec, 7.8 x 4.4 x 0.9mm Body, 24 Lead, 0.65mm Pitch; RoHS: Y; PinCount: 24; High-Reliability: Y; Code_JEDEC: MO-153-AD; ComponentLink1Description: Manufacturer URL; ComponentLink1URL: http://www.national.com/; ComponentLink2Description: LM87 Datasheet; ComponentLink2URL: http://www.national.com/ds/LM/LM87.pdf; ComponentLink3Description: LM87 Web Page; ComponentLink3URL: http://www.national.com/pf/LM/LM87.html; ComponentLink4Description: MTC24 Package Page; ComponentLink4URL: http://www.national.com/packaging/folders/mtc24.html
footprint MTC24_N (TSOP, 24-Leads, Body 7.8x4.4mm, Pitch 0.65mm, IPC Medium Density)
footprint MTC24_L (TSOP, 24-Leads, Body 7.8x4.4mm, Pitch 0.65mm, IPC High Density)
footprint MTC24_M (TSOP, 24-Leads, Body 7.8x4.4mm, Pitch 0.65mm, IPC Low Density)
pins: 1 ADD/NTEST_OUT (io), 2 ~{THERM} (io), 3 SMB DATA (io), 4 SMB CLK (in), 5 FAN 1/AIN 1 (in), 6 FAN 2/AIN 2 (in), 7 CI (io), 8 GND (power), 9 V+ (power), 10 ~{INT/ALERT} (oe), 11 DAC OUT/NTEST_IN (io), 12 ~{RESET} (io), 13 D1- (in), 14 D1+ (in), 15 +12 VIN (in), 16 +5 VIN (in), 17 VCCP 2/D2- (in), 18 +2.5 VIN/D2+ (in), 19 VCCP 1 (in), 20 VID 4/IRQ 4 (in), 21 VID 3/IRQ 3 (in), 22 VID 2/IRQ 2 (in), 23 VID 1/IRQ 1 (in), 24 VID 0/IRQ 0 (in)

## LM87CIMTX
designator U?
Serial Interface System Hardware Monitor with Remote Diode Temperature Sensing, 24-pin TSSOP; PartNumber: LM87CIMTX; Manufacturer: National Semiconductor; PackageTopMarking: NSUZXYTTE#*LM87CIMT; PowerWise: Y; CompType: OtherParts; DatasheetVersion: Dec-2003; PackageVersion: revE, Mar-2003; PackageReference: MTC24; PackageDescription: Molded TSSOP, Jedec, 7.8 x 4.4 x 0.9mm Body, 24 Lead, 0.65mm Pitch; RoHS: N; PinCount: 24; High-Reliability: Y; Code_JEDEC: MO-153-AD; ComponentLink1Description: Manufacturer URL; ComponentLink1URL: http://www.national.com/; ComponentLink2Description: LM87 Datasheet; ComponentLink2URL: http://www.national.com/ds/LM/LM87.pdf; ComponentLink3Description: LM87 Web Page; ComponentLink3URL: http://www.national.com/pf/LM/LM87.html; ComponentLink4Description: MTC24 Package Page; ComponentLink4URL: http://www.national.com/packaging/folders/mtc24.html
footprint MTC24_N (TSOP, 24-Leads, Body 7.8x4.4mm, Pitch 0.65mm, IPC Medium Density)
footprint MTC24_L (TSOP, 24-Leads, Body 7.8x4.4mm, Pitch 0.65mm, IPC High Density)
footprint MTC24_M (TSOP, 24-Leads, Body 7.8x4.4mm, Pitch 0.65mm, IPC Low Density)
pins: 1 ADD/NTEST_OUT (io), 2 ~{THERM} (io), 3 SMB DATA (io), 4 SMB CLK (in), 5 FAN 1/AIN 1 (in), 6 FAN 2/AIN 2 (in), 7 CI (io), 8 GND (power), 9 V+ (power), 10 ~{INT/ALERT} (oe), 11 DAC OUT/NTEST_IN (io), 12 ~{RESET} (io), 13 D1- (in), 14 D1+ (in), 15 +12 VIN (in), 16 +5 VIN (in), 17 VCCP 2/D2- (in), 18 +2.5 VIN/D2+ (in), 19 VCCP 1 (in), 20 VID 4/IRQ 4 (in), 21 VID 3/IRQ 3 (in), 22 VID 2/IRQ 2 (in), 23 VID 1/IRQ 1 (in), 24 VID 0/IRQ 0 (in)

## LM93CIMT
designator U?
Hardware Monitor with Integrated Fan Control for Server Management, 56-pin TSSOP; PartNumber: LM93CIMT; Manufacturer: National Semiconductor; PackageTopMarking: NSUZXYTTE#*LM93CIMT; PowerWise: N; CompType: OtherParts; High-Reliability: Y; DatasheetVersion: Apr-2004; PackageVersion: revD, Apr-2003; PackageReference: MTD56; PackageDescription: Molded TSSOP, Jedec, 14 x 6.1 x 0.9mm Body, 56 Lead, 0.50mm Pitch; RoHS: N; PinCount: 56; Code_IPC: TSSOP50P810-56; ComponentLink1Description: Manufacturer URL; ComponentLink1URL: http://www.national.com/; ComponentLink2Description: LM93 Datasheet; ComponentLink2URL: http://www.national.com/ds/LM/LM93.pdf; ComponentLink3Description: LM93 Web Page; ComponentLink3URL: http://www.national.com/pf/LM/LM93.html; ComponentLink4Description: MTD56 Package Page; ComponentLink4URL: http://www.national.com/packaging/folders/mtd56.html
footprint MTD56_N (TSSOP, 56-Leads, Body 14x6.1mm, Pitch 0.5mm, IPC Medium Density)
footprint MTD56_L (TSSOP, 56-Leads, Body 14x6.1mm, Pitch 0.5mm, IPC High Density)
footprint MTD56_M (TSSOP, 56-Leads, Body 14x6.1mm, Pitch 0.5mm, IPC Low Density)
pins: 1 GPIO_0/TACH 1 (io), 2 GPIO_1/TACH 2 (io), 3 GPIO_2/TACH 3 (io), 4 GPIO_3/TACH 4 (io), 5 GPIO_4 (io), 6 GPIO_5 (io), 7 GPIO_6 (io), 8 GPIO_7 (io), 9 ~{VRD1_HOT} (in), 10 ~{VRD2_HOT} (in), 11 ~{SCSI_TERM 1} (in), 12 ~{SCSI_TERM 2} (in), 13 SMBDAT (io), 14 SMBCLK (in), 15 ~{ALERT}/XTEST OUT (out), 16 ~{RESET} (io), 17 AGND (power), 18 VREF (out), 19 REMOTE 1- (in), 20 REMOTE 1+ (io), 21 REMOTE 2- (in), 22 REMOTE 2+ (io), 23 AD_IN 1 (1.236V) (in), 24 AD_IN 2 (1.236V) (in), 25 AD_IN 3 (1.236V) (in), 26 AD_IN 4 (1.6V) (in), 27 AD_IN 5 (2V) (in), 28 AD_IN 6 (2V) (in), 29 AD_IN 7 (1.6V;P1_VCCP) (in), 30 AD_IN 8 (1.6V;P2_VCCP) (in), 31 AD_IN 9 (4.4V) (in), 32 AD_IN 10 (6.67V) (in), 33 AD_IN 11 (3.3V) (in), 34 AD_IN 12 (2.65V) (in), 35 AD_IN 13 (1.312V) (in), 36 AD_IN 14 (1.312V) (in), 37 AD_IN 15 (1.236V) (in), 38 ADD SEL (in), 39 3.3V SB (AD_IN 16) (power), 40 GND (power), 41 PWM 1 (oe), 42 PWM 2 (oe), 43 P1_VID 0 (in), 44 P1_VID 1 (in), 45 P1_VID 2 (in), 46 P1_VID 3 (in), 47 P1_VID 4 (in), 48 P1_VID 5 (in), 49 ~{P1_PROCHOT} (io), 50 ~{P2_PROCHOT} (io), 51 P2_VID 0 (in), 52 P2_VID 1 (in), 53 P2_VID 2 (in), 54 P2_VID 3 (in), 55 P2_VID 4 (in), 56 P2_VID 5 (in)

## LM93CIMT/NOPB
designator U?
Hardware Monitor with Integrated Fan Control for Server Management, 56-pin TSSOP, Pb-Free; PartNumber: LM93CIMT/NOPB; Manufacturer: National Semiconductor; PackageTopMarking: NSUZXYTTE#*LM93CIMT; PowerWise: N; CompType: OtherParts; High-Reliability: Y; DatasheetVersion: Apr-2004; PackageVersion: revD, Apr-2003; PackageReference: MTD56; PackageDescription: Molded TSSOP, Jedec, 14 x 6.1 x 0.9mm Body, 56 Lead, 0.50mm Pitch; RoHS: Y; PinCount: 56; Code_IPC: TSSOP50P810-56; ComponentLink1Description: Manufacturer URL; ComponentLink1URL: http://www.national.com/; ComponentLink2Description: LM93 Datasheet; ComponentLink2URL: http://www.national.com/ds/LM/LM93.pdf; ComponentLink3Description: LM93 Web Page; ComponentLink3URL: http://www.national.com/pf/LM/LM93.html; ComponentLink4Description: MTD56 Package Page; ComponentLink4URL: http://www.national.com/packaging/folders/mtd56.html
footprint MTD56_N (TSSOP, 56-Leads, Body 14x6.1mm, Pitch 0.5mm, IPC Medium Density)
footprint MTD56_L (TSSOP, 56-Leads, Body 14x6.1mm, Pitch 0.5mm, IPC High Density)
footprint MTD56_M (TSSOP, 56-Leads, Body 14x6.1mm, Pitch 0.5mm, IPC Low Density)
pins: 1 GPIO_0/TACH 1 (io), 2 GPIO_1/TACH 2 (io), 3 GPIO_2/TACH 3 (io), 4 GPIO_3/TACH 4 (io), 5 GPIO_4 (io), 6 GPIO_5 (io), 7 GPIO_6 (io), 8 GPIO_7 (io), 9 ~{VRD1_HOT} (in), 10 ~{VRD2_HOT} (in), 11 ~{SCSI_TERM 1} (in), 12 ~{SCSI_TERM 2} (in), 13 SMBDAT (io), 14 SMBCLK (in), 15 ~{ALERT}/XTEST OUT (out), 16 ~{RESET} (io), 17 AGND (power), 18 VREF (out), 19 REMOTE 1- (in), 20 REMOTE 1+ (io), 21 REMOTE 2- (in), 22 REMOTE 2+ (io), 23 AD_IN 1 (1.236V) (in), 24 AD_IN 2 (1.236V) (in), 25 AD_IN 3 (1.236V) (in), 26 AD_IN 4 (1.6V) (in), 27 AD_IN 5 (2V) (in), 28 AD_IN 6 (2V) (in), 29 AD_IN 7 (1.6V;P1_VCCP) (in), 30 AD_IN 8 (1.6V;P2_VCCP) (in), 31 AD_IN 9 (4.4V) (in), 32 AD_IN 10 (6.67V) (in), 33 AD_IN 11 (3.3V) (in), 34 AD_IN 12 (2.65V) (in), 35 AD_IN 13 (1.312V) (in), 36 AD_IN 14 (1.312V) (in), 37 AD_IN 15 (1.236V) (in), 38 ADD SEL (in), 39 3.3V SB (AD_IN 16) (power), 40 GND (power), 41 PWM 1 (oe), 42 PWM 2 (oe), 43 P1_VID 0 (in), 44 P1_VID 1 (in), 45 P1_VID 2 (in), 46 P1_VID 3 (in), 47 P1_VID 4 (in), 48 P1_VID 5 (in), 49 ~{P1_PROCHOT} (io), 50 ~{P2_PROCHOT} (io), 51 P2_VID 0 (in), 52 P2_VID 1 (in), 53 P2_VID 2 (in), 54 P2_VID 3 (in), 55 P2_VID 4 (in), 56 P2_VID 5 (in)

## LM93CIMTX
designator U?
Hardware Monitor with Integrated Fan Control for Server Management, 56-pin TSSOP; PartNumber: LM93CIMTX; Manufacturer: National Semiconductor; PackageTopMarking: NSUZXYTTE#*LM93CIMT; PowerWise: N; CompType: OtherParts; High-Reliability: Y; DatasheetVersion: Apr-2004; PackageVersion: revD, Apr-2003; PackageReference: MTD56; PackageDescription: Molded TSSOP, Jedec, 14 x 6.1 x 0.9mm Body, 56 Lead, 0.50mm Pitch; RoHS: N; PinCount: 56; Code_IPC: TSSOP50P810-56; ComponentLink1Description: Manufacturer URL; ComponentLink1URL: http://www.national.com/; ComponentLink2Description: LM93 Datasheet; ComponentLink2URL: http://www.national.com/ds/LM/LM93.pdf; ComponentLink3Description: LM93 Web Page; ComponentLink3URL: http://www.national.com/pf/LM/LM93.html; ComponentLink4Description: MTD56 Package Page; ComponentLink4URL: http://www.national.com/packaging/folders/mtd56.html
footprint MTD56_N (TSSOP, 56-Leads, Body 14x6.1mm, Pitch 0.5mm, IPC Medium Density)
footprint MTD56_L (TSSOP, 56-Leads, Body 14x6.1mm, Pitch 0.5mm, IPC High Density)
footprint MTD56_M (TSSOP, 56-Leads, Body 14x6.1mm, Pitch 0.5mm, IPC Low Density)
pins: 1 GPIO_0/TACH 1 (io), 2 GPIO_1/TACH 2 (io), 3 GPIO_2/TACH 3 (io), 4 GPIO_3/TACH 4 (io), 5 GPIO_4 (io), 6 GPIO_5 (io), 7 GPIO_6 (io), 8 GPIO_7 (io), 9 ~{VRD1_HOT} (in), 10 ~{VRD2_HOT} (in), 11 ~{SCSI_TERM 1} (in), 12 ~{SCSI_TERM 2} (in), 13 SMBDAT (io), 14 SMBCLK (in), 15 ~{ALERT}/XTEST OUT (out), 16 ~{RESET} (io), 17 AGND (power), 18 VREF (out), 19 REMOTE 1- (in), 20 REMOTE 1+ (io), 21 REMOTE 2- (in), 22 REMOTE 2+ (io), 23 AD_IN 1 (1.236V) (in), 24 AD_IN 2 (1.236V) (in), 25 AD_IN 3 (1.236V) (in), 26 AD_IN 4 (1.6V) (in), 27 AD_IN 5 (2V) (in), 28 AD_IN 6 (2V) (in), 29 AD_IN 7 (1.6V;P1_VCCP) (in), 30 AD_IN 8 (1.6V;P2_VCCP) (in), 31 AD_IN 9 (4.4V) (in), 32 AD_IN 10 (6.67V) (in), 33 AD_IN 11 (3.3V) (in), 34 AD_IN 12 (2.65V) (in), 35 AD_IN 13 (1.312V) (in), 36 AD_IN 14 (1.312V) (in), 37 AD_IN 15 (1.236V) (in), 38 ADD SEL (in), 39 3.3V SB (AD_IN 16) (power), 40 GND (power), 41 PWM 1 (oe), 42 PWM 2 (oe), 43 P1_VID 0 (in), 44 P1_VID 1 (in), 45 P1_VID 2 (in), 46 P1_VID 3 (in), 47 P1_VID 4 (in), 48 P1_VID 5 (in), 49 ~{P1_PROCHOT} (io), 50 ~{P2_PROCHOT} (io), 51 P2_VID 0 (in), 52 P2_VID 1 (in), 53 P2_VID 2 (in), 54 P2_VID 3 (in), 55 P2_VID 4 (in), 56 P2_VID 5 (in)

## LM94CIMT
designator U?
TruTherm Hardware Monitor with PI Loop Fan Control for Server Management, 56-pin TSSOP; PartNumber: LM94CIMT; Manufacturer: National Semiconductor; PackageTopMarking: NSUZXYTTE#*LM94CIMT; PowerWise: Y; CompType: OtherParts; DatasheetVersion: May-2006; PackageVersion: revD, Apr-2003; PackageReference: MTD56; PackageDescription: Molded TSSOP, Jedec, 14 x 6.1 x 0.9mm Body, 56 Lead, 0.50mm Pitch; RoHS: N; PinCount: 56; High-Reliability: Y; Code_IPC: TSSOP50P810-56; ComponentLink1Description: Manufacturer URL; ComponentLink1URL: http://www.national.com/; ComponentLink2Description: LM94 Datasheet; ComponentLink2URL: http://www.national.com/ds/LM/LM94.pdf; ComponentLink3Description: LM94 Web Page; ComponentLink3URL: http://www.national.com/pf/LM/LM94.html; ComponentLink4Description: MTD56 Package Page; ComponentLink4URL: http://www.national.com/packaging/folders/mtd56.html
footprint MTD56_N (TSSOP, 56-Leads, Body 14x6.1mm, Pitch 0.5mm, IPC Medium Density)
footprint MTD56_L (TSSOP, 56-Leads, Body 14x6.1mm, Pitch 0.5mm, IPC High Density)
footprint MTD56_M (TSSOP, 56-Leads, Body 14x6.1mm, Pitch 0.5mm, IPC Low Density)
pins: 1 GPIO_0/TACH 1 (io), 2 GPIO_1/TACH 2 (io), 3 GPIO_2/TACH 3 (io), 4 GPIO_3/TACH 4 (io), 5 GPIO_4 (io), 6 GPIO_5 (io), 7 GPIO_6 (io), 8 GPIO_7 (io), 9 ~{VRD1_HOT} (in), 10 ~{VRD2_HOT} (in), 11 ~{P2_VID 6/GPI8} (in), 12 ~{P1_VID 6/GPI9} (in), 13 SMBDAT (io), 14 SMBCLK (in), 15 ~{ALERT}/XTEST OUT (in), 16 ~{RESET} (in), 17 AGND (power), 18 VREF (out), 19 REMOTE 1- (in), 20 REMOTE 1A+ (io), 21 REMOTE 2- (in), 22 REMOTE 2A+ (io), 23 AD_IN 1 (1.236V)/REMOTE 1B+ (in), 24 AD_IN 2 (1.236V)/REMOTE 2B+ (in), 25 AD_IN 3 (1.236V) (in), 26 AD_IN 4 (1.6V) (in), 27 AD_IN 5 (2V) (in), 28 AD_IN 6 (2V) (in), 29 AD_IN 7 (1.6V;P1_VCCP) (in), 30 AD_IN 8 (1.6V;P2_VCCP) (in), 31 AD_IN 9 (4.4V) (in), 32 AD_IN 10 (6.67V) (in), 33 AD_IN 11 (3.3V) (in), 34 AD_IN 12 (2.65V) (in), 35 AD_IN 13 (1.312V) (in), 36 AD_IN 14 (1.312V) (in), 37 AD_IN 15 (1.236V) (in), 38 ADD SEL (in), 39 3.3V SB (AD_IN 16) (power), 40 GND (power), 41 PWM 1 (oe), 42 PWM 2 (oe), 43 P1_VID 0/P1_VID7 (in), 44 P1_VID 1 (in), 45 P1_VID 2 (in), 46 P1_VID 3 (in), 47 P1_VID 4 (in), 48 P1_VID 5 (in), 49 ~{P1_PROCHOT} (io), 50 ~{P2_PROCHOT} (io), 51 P2_VID 0/P2_VID7 (in), 52 P2_VID 1 (in), 53 P2_VID 2 (in), 54 P2_VID 3 (in), 55 P2_VID 4 (in), 56 P2_VID 5 (in)

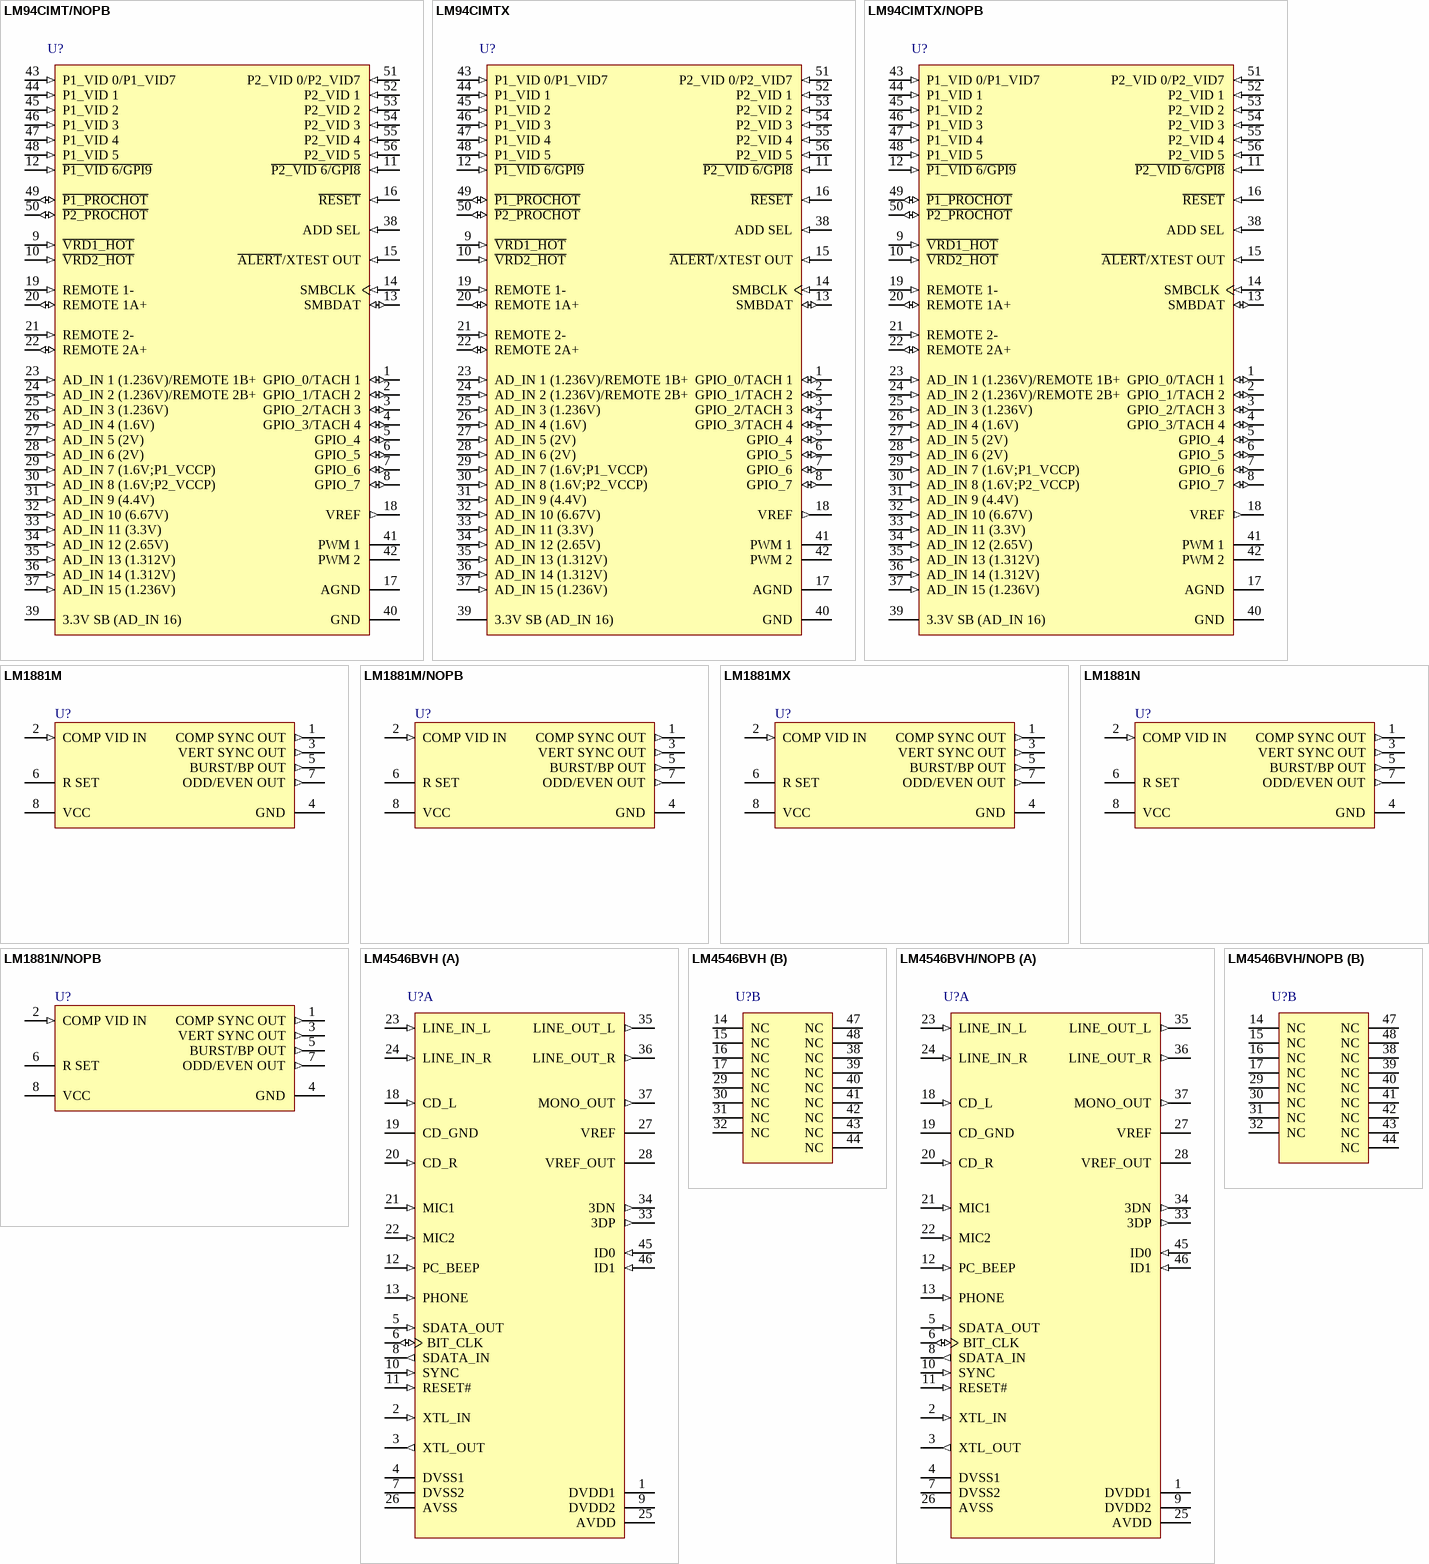
[diagram p4: symbols LM94CIMT/NOPB to LM4546BVH/NOPB]

## LM94CIMT/NOPB
designator U?
TruTherm Hardware Monitor with PI Loop Fan Control for Server Management, 56-pin TSSOP, Pb-Free; PartNumber: LM94CIMT/NOPB; Manufacturer: National Semiconductor; PackageTopMarking: NSUZXYTTE#*LM94CIMT; PowerWise: Y; CompType: OtherParts; DatasheetVersion: May-2006; PackageVersion: revD, Apr-2003; PackageReference: MTD56; PackageDescription: Molded TSSOP, Jedec, 14 x 6.1 x 0.9mm Body, 56 Lead, 0.50mm Pitch; RoHS: Y; PinCount: 56; High-Reliability: Y; Code_IPC: TSSOP50P810-56; ComponentLink1Description: Manufacturer URL; ComponentLink1URL: http://www.national.com/; ComponentLink2Description: LM94 Datasheet; ComponentLink2URL: http://www.national.com/ds/LM/LM94.pdf; ComponentLink3Description: LM94 Web Page; ComponentLink3URL: http://www.national.com/pf/LM/LM94.html; ComponentLink4Description: MTD56 Package Page; ComponentLink4URL: http://www.national.com/packaging/folders/mtd56.html
footprint MTD56_N (TSSOP, 56-Leads, Body 14x6.1mm, Pitch 0.5mm, IPC Medium Density)
footprint MTD56_L (TSSOP, 56-Leads, Body 14x6.1mm, Pitch 0.5mm, IPC High Density)
footprint MTD56_M (TSSOP, 56-Leads, Body 14x6.1mm, Pitch 0.5mm, IPC Low Density)
pins: 1 GPIO_0/TACH 1 (io), 2 GPIO_1/TACH 2 (io), 3 GPIO_2/TACH 3 (io), 4 GPIO_3/TACH 4 (io), 5 GPIO_4 (io), 6 GPIO_5 (io), 7 GPIO_6 (io), 8 GPIO_7 (io), 9 ~{VRD1_HOT} (in), 10 ~{VRD2_HOT} (in), 11 ~{P2_VID 6/GPI8} (in), 12 ~{P1_VID 6/GPI9} (in), 13 SMBDAT (io), 14 SMBCLK (in), 15 ~{ALERT}/XTEST OUT (in), 16 ~{RESET} (in), 17 AGND (power), 18 VREF (out), 19 REMOTE 1- (in), 20 REMOTE 1A+ (io), 21 REMOTE 2- (in), 22 REMOTE 2A+ (io), 23 AD_IN 1 (1.236V)/REMOTE 1B+ (in), 24 AD_IN 2 (1.236V)/REMOTE 2B+ (in), 25 AD_IN 3 (1.236V) (in), 26 AD_IN 4 (1.6V) (in), 27 AD_IN 5 (2V) (in), 28 AD_IN 6 (2V) (in), 29 AD_IN 7 (1.6V;P1_VCCP) (in), 30 AD_IN 8 (1.6V;P2_VCCP) (in), 31 AD_IN 9 (4.4V) (in), 32 AD_IN 10 (6.67V) (in), 33 AD_IN 11 (3.3V) (in), 34 AD_IN 12 (2.65V) (in), 35 AD_IN 13 (1.312V) (in), 36 AD_IN 14 (1.312V) (in), 37 AD_IN 15 (1.236V) (in), 38 ADD SEL (in), 39 3.3V SB (AD_IN 16) (power), 40 GND (power), 41 PWM 1 (oe), 42 PWM 2 (oe), 43 P1_VID 0/P1_VID7 (in), 44 P1_VID 1 (in), 45 P1_VID 2 (in), 46 P1_VID 3 (in), 47 P1_VID 4 (in), 48 P1_VID 5 (in), 49 ~{P1_PROCHOT} (io), 50 ~{P2_PROCHOT} (io), 51 P2_VID 0/P2_VID7 (in), 52 P2_VID 1 (in), 53 P2_VID 2 (in), 54 P2_VID 3 (in), 55 P2_VID 4 (in), 56 P2_VID 5 (in)

## LM94CIMTX
designator U?
TruTherm Hardware Monitor with PI Loop Fan Control for Server Management, 56-pin TSSOP; PartNumber: LM94CIMTX; Manufacturer: National Semiconductor; PackageTopMarking: NSUZXYTTE#*LM94CIMT; PowerWise: Y; CompType: OtherParts; DatasheetVersion: May-2006; PackageVersion: revD, Apr-2003; PackageReference: MTD56; PackageDescription: Molded TSSOP, Jedec, 14 x 6.1 x 0.9mm Body, 56 Lead, 0.50mm Pitch; RoHS: N; PinCount: 56; High-Reliability: Y; Code_IPC: TSSOP50P810-56; ComponentLink1Description: Manufacturer URL; ComponentLink1URL: http://www.national.com/; ComponentLink2Description: LM94 Datasheet; ComponentLink2URL: http://www.national.com/ds/LM/LM94.pdf; ComponentLink3Description: LM94 Web Page; ComponentLink3URL: http://www.national.com/pf/LM/LM94.html; ComponentLink4Description: MTD56 Package Page; ComponentLink4URL: http://www.national.com/packaging/folders/mtd56.html
footprint MTD56_N (TSSOP, 56-Leads, Body 14x6.1mm, Pitch 0.5mm, IPC Medium Density)
footprint MTD56_L (TSSOP, 56-Leads, Body 14x6.1mm, Pitch 0.5mm, IPC High Density)
footprint MTD56_M (TSSOP, 56-Leads, Body 14x6.1mm, Pitch 0.5mm, IPC Low Density)
pins: 1 GPIO_0/TACH 1 (io), 2 GPIO_1/TACH 2 (io), 3 GPIO_2/TACH 3 (io), 4 GPIO_3/TACH 4 (io), 5 GPIO_4 (io), 6 GPIO_5 (io), 7 GPIO_6 (io), 8 GPIO_7 (io), 9 ~{VRD1_HOT} (in), 10 ~{VRD2_HOT} (in), 11 ~{P2_VID 6/GPI8} (in), 12 ~{P1_VID 6/GPI9} (in), 13 SMBDAT (io), 14 SMBCLK (in), 15 ~{ALERT}/XTEST OUT (in), 16 ~{RESET} (in), 17 AGND (power), 18 VREF (out), 19 REMOTE 1- (in), 20 REMOTE 1A+ (io), 21 REMOTE 2- (in), 22 REMOTE 2A+ (io), 23 AD_IN 1 (1.236V)/REMOTE 1B+ (in), 24 AD_IN 2 (1.236V)/REMOTE 2B+ (in), 25 AD_IN 3 (1.236V) (in), 26 AD_IN 4 (1.6V) (in), 27 AD_IN 5 (2V) (in), 28 AD_IN 6 (2V) (in), 29 AD_IN 7 (1.6V;P1_VCCP) (in), 30 AD_IN 8 (1.6V;P2_VCCP) (in), 31 AD_IN 9 (4.4V) (in), 32 AD_IN 10 (6.67V) (in), 33 AD_IN 11 (3.3V) (in), 34 AD_IN 12 (2.65V) (in), 35 AD_IN 13 (1.312V) (in), 36 AD_IN 14 (1.312V) (in), 37 AD_IN 15 (1.236V) (in), 38 ADD SEL (in), 39 3.3V SB (AD_IN 16) (power), 40 GND (power), 41 PWM 1 (oe), 42 PWM 2 (oe), 43 P1_VID 0/P1_VID7 (in), 44 P1_VID 1 (in), 45 P1_VID 2 (in), 46 P1_VID 3 (in), 47 P1_VID 4 (in), 48 P1_VID 5 (in), 49 ~{P1_PROCHOT} (io), 50 ~{P2_PROCHOT} (io), 51 P2_VID 0/P2_VID7 (in), 52 P2_VID 1 (in), 53 P2_VID 2 (in), 54 P2_VID 3 (in), 55 P2_VID 4 (in), 56 P2_VID 5 (in)

## LM94CIMTX/NOPB
designator U?
TruTherm Hardware Monitor with PI Loop Fan Control for Server Management, 56-pin TSSOP, Pb-Free; PartNumber: LM94CIMTX/NOPB; Manufacturer: National Semiconductor; PackageTopMarking: NSUZXYTTE#*LM94CIMT; PowerWise: Y; CompType: OtherParts; DatasheetVersion: May-2006; PackageVersion: revD, Apr-2003; PackageReference: MTD56; PackageDescription: Molded TSSOP, Jedec, 14 x 6.1 x 0.9mm Body, 56 Lead, 0.50mm Pitch; RoHS: Y; PinCount: 56; High-Reliability: Y; Code_IPC: TSSOP50P810-56; ComponentLink1Description: Manufacturer URL; ComponentLink1URL: http://www.national.com/; ComponentLink2Description: LM94 Datasheet; ComponentLink2URL: http://www.national.com/ds/LM/LM94.pdf; ComponentLink3Description: LM94 Web Page; ComponentLink3URL: http://www.national.com/pf/LM/LM94.html; ComponentLink4Description: MTD56 Package Page; ComponentLink4URL: http://www.national.com/packaging/folders/mtd56.html
footprint MTD56_N (TSSOP, 56-Leads, Body 14x6.1mm, Pitch 0.5mm, IPC Medium Density)
footprint MTD56_L (TSSOP, 56-Leads, Body 14x6.1mm, Pitch 0.5mm, IPC High Density)
footprint MTD56_M (TSSOP, 56-Leads, Body 14x6.1mm, Pitch 0.5mm, IPC Low Density)
pins: 1 GPIO_0/TACH 1 (io), 2 GPIO_1/TACH 2 (io), 3 GPIO_2/TACH 3 (io), 4 GPIO_3/TACH 4 (io), 5 GPIO_4 (io), 6 GPIO_5 (io), 7 GPIO_6 (io), 8 GPIO_7 (io), 9 ~{VRD1_HOT} (in), 10 ~{VRD2_HOT} (in), 11 ~{P2_VID 6/GPI8} (in), 12 ~{P1_VID 6/GPI9} (in), 13 SMBDAT (io), 14 SMBCLK (in), 15 ~{ALERT}/XTEST OUT (in), 16 ~{RESET} (in), 17 AGND (power), 18 VREF (out), 19 REMOTE 1- (in), 20 REMOTE 1A+ (io), 21 REMOTE 2- (in), 22 REMOTE 2A+ (io), 23 AD_IN 1 (1.236V)/REMOTE 1B+ (in), 24 AD_IN 2 (1.236V)/REMOTE 2B+ (in), 25 AD_IN 3 (1.236V) (in), 26 AD_IN 4 (1.6V) (in), 27 AD_IN 5 (2V) (in), 28 AD_IN 6 (2V) (in), 29 AD_IN 7 (1.6V;P1_VCCP) (in), 30 AD_IN 8 (1.6V;P2_VCCP) (in), 31 AD_IN 9 (4.4V) (in), 32 AD_IN 10 (6.67V) (in), 33 AD_IN 11 (3.3V) (in), 34 AD_IN 12 (2.65V) (in), 35 AD_IN 13 (1.312V) (in), 36 AD_IN 14 (1.312V) (in), 37 AD_IN 15 (1.236V) (in), 38 ADD SEL (in), 39 3.3V SB (AD_IN 16) (power), 40 GND (power), 41 PWM 1 (oe), 42 PWM 2 (oe), 43 P1_VID 0/P1_VID7 (in), 44 P1_VID 1 (in), 45 P1_VID 2 (in), 46 P1_VID 3 (in), 47 P1_VID 4 (in), 48 P1_VID 5 (in), 49 ~{P1_PROCHOT} (io), 50 ~{P2_PROCHOT} (io), 51 P2_VID 0/P2_VID7 (in), 52 P2_VID 1 (in), 53 P2_VID 2 (in), 54 P2_VID 3 (in), 55 P2_VID 4 (in), 56 P2_VID 5 (in)

## LM1881M
designator U?
Video Sync Separator, 8-pin Narrow SOIC; PartNumber: LM1881M; Manufacturer: National Semiconductor; PackageTopMarking: NSZXTT*LM*1881M; PowerWise: N; CompType: OtherParts; High-Reliability: Y; DatasheetVersion: May-2006; PackageVersion: revM, May-2009; PackageReference: M08A; PackageDescription: SOIC Narrow, 4.9 x 3.9 x 1.45mm, 8 Lead, 1.27mm Pitch; RoHS: N; Pin Count: 8; Code_JEDEC: MS-012-AA; Code_IPC: SOIC127P600-8; ComponentLink1Description: Manufacturer URL; ComponentLink1URL: http://www.national.com/; ComponentLink2Description: LM1881 Datasheet; ComponentLink2URL: http://www.national.com/ds/LM/LM1881.pdf; ComponentLink3Description: LM1881 Web Page; ComponentLink3URL: http://www.national.com/pf/LM/LM1881.html; ComponentLink4Description: M08A Package Page; ComponentLink4URL: http://www.national.com/packaging/folders/m08a.html
footprint M08A_N (SOIC, 8-Leads, Body 4.9x3.9mm, Pitch 1.27mm, IPC Medium Density)
footprint M08A_L (SOIC, 8-Leads, Body 4.9x3.9mm, Pitch 1.27mm, IPC High Density)
footprint M08A_M (SOIC, 8-Leads, Body 4.9x3.9mm, Pitch 1.27mm, IPC Low Density)
pins: 1 COMP SYNC OUT (out), 2 COMP VID IN (in), 3 VERT SYNC OUT (out), 4 GND (power), 5 BURST/BP OUT (out), 6 R SET, 7 ODD/EVEN OUT (out), 8 VCC (power)